# EAGLE library part US6K1 (library zz-upenn 2)
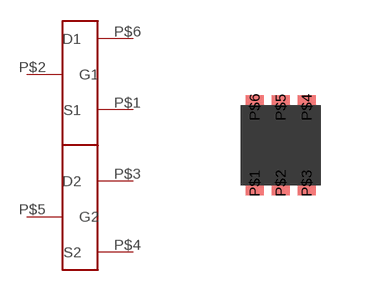
[diagram p5: symbol with the pads of TUMT6; footprint TUMT6]

Designator prefix -

## US6K1  [TUMT6]
P$1  S1
P$2  G1
P$3  D2
P$4  S2
P$5  G2
P$6  D1

## Footprint TUMT6 (pad centres in mm)
smd 0.45 x 0.6: P$1 -0.65,-0.95; P$2 0,-0.95; P$3 0.65,-0.95; P$4 0.65,0.95; P$5 0,0.95; P$6 -0.65,0.95